# Altium schematic symbol library btretro_schlib.SchLib: 68 symbols (part 3 of 3)
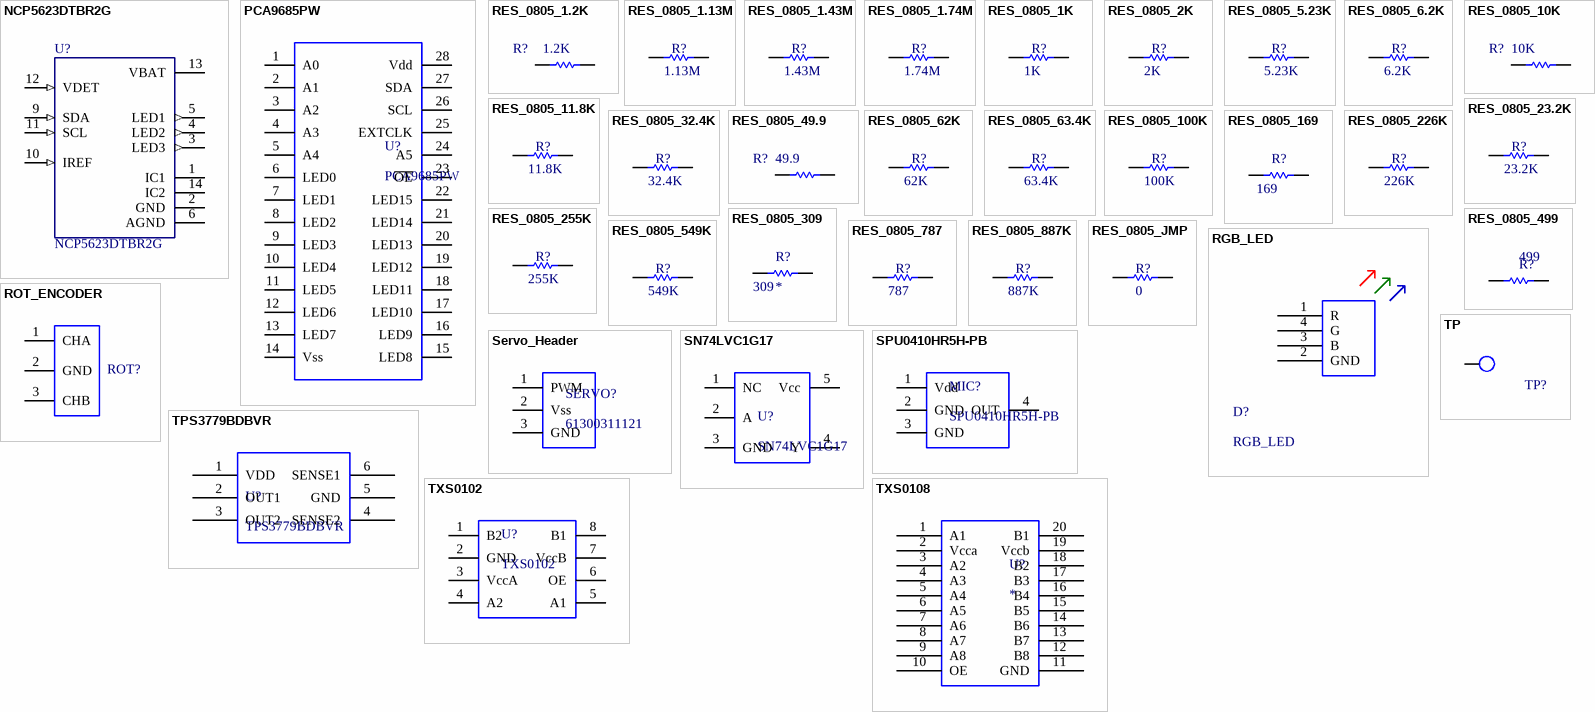
[diagram p3: symbols NCP5623DTBR2G to TXS0108]

## TXS0102
designator U?
IC VOLT-LVL TRANSL 2BIT BI SM8; Manufacturer: Texas Instruments; Manufacturer Part Number: TXS0102DCTR; Min Supply Voltage: 1.65V; Max Supply Voltage: 5.5V; Propagation Delay: 260ns; Number of Inputs: 2; Data Rate: 24Mbps; Logic Function: Translator; Low Level Output Current: 1mA; High Level Output Current: -20uA; Quiescent Current: 14.4uA; Turn-On Delay Time: 102ns; Supplier 1: Digi-Key; Supplier Part Number 1: 296-21978-1-ND; Stock 1: 131781; Pricing 1: 1=0.76, 10=0.673, 100=0.516, 500=0.4079, 1000=0.3263 (USD); Mount: Surface Mount; Case/Package: SSOP; Number of Pins: 8; Weight: 0.000825oz; Contact Plating: Gold; Min Operating Temperature: -40°C; Max Operating Temperature: 85°C; Packaging: Tape and Reel; Package Quantity: 1; Number of Channels: 2; Number of Bits: 2; Length: 3.15mm; Height: 1.2mm; Width: 2.9mm; Radiation Hardening: No; REACH SVHC: No SVHC; Lead Free: Lead Free; ComponentLink1URL: https://datasheet.ciiva.com/4834/sces640d-204615-4834322.pdf; ComponentLink1Description: https://datasheet.ciiva.com/4834/sces640d-204615-4834322.pdf; ComponentLink2URL: https://datasheet.ciiva.com/14287/txs0102-14287909.pdf; ComponentLink2Description: https://datasheet.ciiva.com/14287/txs0102-14287909.pdf; ComponentLink3URL: https://datasheet.ciiva.com/22714/1863639-22714744.pdf; ComponentLink3Description: https://datasheet.ciiva.com/22714/1863639-22714744.pdf; ComponentLink4URL: https://datasheet.ciiva.com/28594/1863639-28594840.pdf; ComponentLink4Description: https://datasheet.ciiva.com/28594/1863639-28594840.pdf; ComponentLink5URL: https://datasheet.ciiva.com/15096/getdatasheetpartid-172987-15096217.pdf; ComponentLink5Description: https://datasheet.ciiva.com/15096/getdatasheetpartid-172987-15096217.pdf; ComponentLink6URL: https://datasheet.ciiva.com/1899/txs0102-1899626.pdf; ComponentLink6Description: https://datasheet.ciiva.com/1899/txs0102-1899626.pdf; ComponentLink7URL: https://datasheet.ciiva.com/1899/txs0102-1899627.pdf; ComponentLink7Description: https://datasheet.ciiva.com/1899/txs0102-1899627.pdf; ComponentLink8URL: https://datasheet.ciiva.com/1899/txs0102-1899628.pdf; ComponentLink8Description: https://datasheet.ciiva.com/1899/txs0102-1899628.pdf
footprint DCT8_LEVELSHIFT
pins: 1 B2, 2 GND, 3 VccA, 4 A2, 5 A1, 6 OE, 7 VccB, 8 B1

## TXS0108
designator U?
TRANSLATOR, VOLTAGE, 8BIT, 20TSSOP; Manufacturer: Texas Instruments; Manufacturer Part Number: TXS0108EPWR; Output Current: 620µA; Propagation Delay: 4.8ns; Logic Case Style: TSSOP; No. of Pins: 20; Supply Voltage Min: 1.2V; Logic Type: Voltage Level Translator; Supply Voltage Max: 5.5V; No. of Inputs: 8; SVHC: No SVHC (16-Jun-2014); Supplier 1: Digi-Key; Stock 1: 41812; Pricing 1: 1=1.7, 10=1.523, 100=1.2242, 500=1.0058, 1000=0.8334 (USD); Operating Temperature Min: -40°C; Operating Temperature Max: 85°C; Packaging: Cut Tape; MSL: MSL 1 - Unlimited; ComponentLink1URL: https://datasheet.ciiva.com/14287/txs0108e-14287280.pdf; ComponentLink1Description: https://datasheet.ciiva.com/14287/txs0108e-14287280.pdf; ComponentLink2URL: https://datasheet.ciiva.com/4834/sces642b-127094-4834401.pdf; ComponentLink2Description: https://datasheet.ciiva.com/4834/sces642b-127094-4834401.pdf; ComponentLink3URL: https://datasheet.ciiva.com/30509/txs0108epwr-30509699.pdf; ComponentLink3Description: https://datasheet.ciiva.com/30509/txs0108epwr-30509699.pdf; ComponentLink4URL: https://datasheet.ciiva.com/1899/txs0108e-1899604.pdf; ComponentLink4Description: https://datasheet.ciiva.com/1899/txs0108e-1899604.pdf; ComponentLink5URL: https://datasheet.ciiva.com/15096/getdatasheetpartid-322119-15096276.pdf; ComponentLink5Description: https://datasheet.ciiva.com/15096/getdatasheetpartid-322119-15096276.pdf; ComponentLink6URL: https://datasheet.ciiva.com/1899/txs0108e-1899605.pdf; ComponentLink6Description: https://datasheet.ciiva.com/1899/txs0108e-1899605.pdf; ComponentLink7URL: https://datasheet.ciiva.com/28653/1714661-28653429.pdf; ComponentLink7Description: https://datasheet.ciiva.com/28653/1714661-28653429.pdf; ComponentLink8URL: https://datasheet.ciiva.com/1899/txs0108e-1899606.pdf; ComponentLink8Description: https://datasheet.ciiva.com/1899/txs0108e-1899606.pdf; ComponentLink9URL: https://datasheet.ciiva.com/1508/1815244-1508732.pdf; ComponentLink9Description: https://datasheet.ciiva.com/1508/1815244-1508732.pdf; ComponentLink10URL: https://datasheet.ciiva.com/14287/txs0108e-14287532.pdf; ComponentLink10Description: https://datasheet.ciiva.com/14287/txs0108e-14287532.pdf; ComponentLink11URL: https://datasheet.ciiva.com/26039/txs0108e-26039599.pdf; ComponentLink11Description: https://datasheet.ciiva.com/26039/txs0108e-26039599.pdf; Supplier Part Number 1: 296-23011-1-ND
footprint TSSOP20
pins: 1 A1, 2 Vcca, 3 A2, 4 A3, 5 A4, 6 A5, 7 A6, 8 A7, 9 A8, 10 OE, 11 GND, 12 B8, 13 B7, 14 B6, 15 B5, 16 B4, 17 B3, 18 B2, 19 Vccb, 20 B1